# EAGLE library part UCC27211AQDDARQ1 (library powerPad)
This is the PowerPad diagram for our voltage regulator using a different one
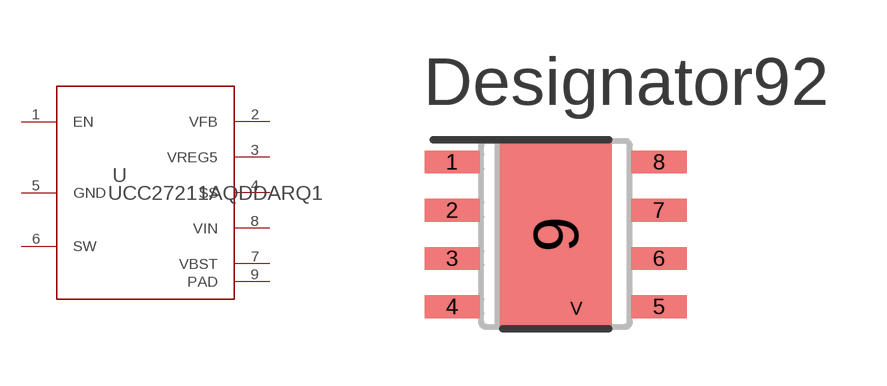
[diagram p0: symbol with the pads of DDA0008E_N; footprint DDA0008E_N]

Designator prefix U

## UCC27211AQDDARQ1 (MANUFACTURER: Texas Instruments; PARTNUMBER: UCC27211AQDDARQ1; REFDES: RefDes; TYPE: TYPE; VALUE: Value)  [DDA0008E_N]
1  EN  pwr
2  VFB  pwr
3  VREG5  out
4  SS  pwr
5  GND  in
6  SW  in
7  VBST  pwr
8  VIN  out
9  PAD  pas

## Footprint DDA0008E_N (pad centres in mm)
smd 1.45 x 0.6: 1 -2.725,1.905; 2 -2.725,0.635; 3 -2.725,-0.635; 4 -2.725,-1.905; 5 2.725,-1.905; 6 2.725,-0.635; 7 2.725,0.635; 8 2.725,1.905
smd 2.95 x 4.9: 9 0,0
smd 0.5 x 0.5: V 0.55,-1.95